# Altium footprint library MX34032_LI.PcbLib: 1 footprints
Each footprint in its own frame and in the unit in brackets; x right, y up, seen from the top. Pads: shape width x height; smd on the part's side, far side on the other; paste and mask are expansions set on the pad; w line width, h text height; cw(c..) or ccw(c..) is an arc to the next point about the centre after c.
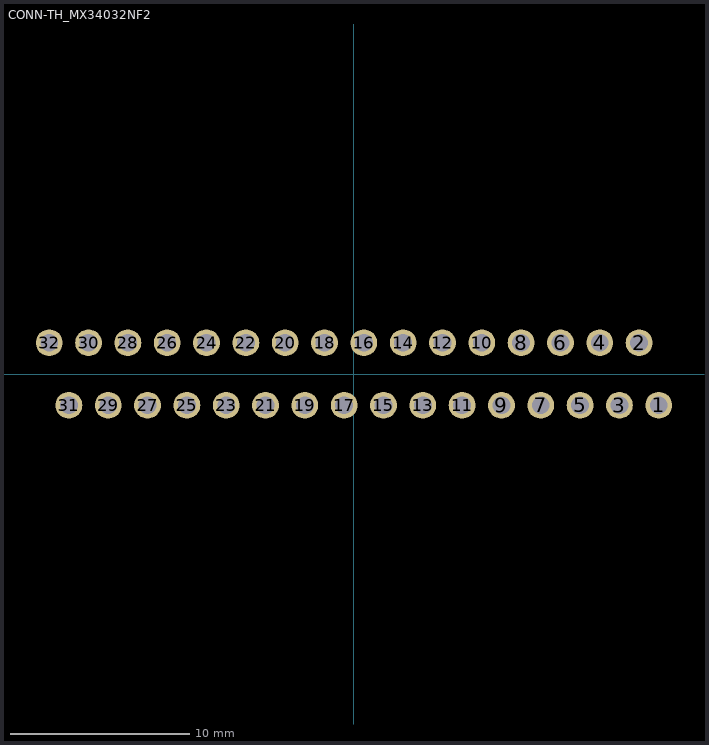
[diagram p0: the footprint, top view; thin cyan lines are the x and y axes]

## CONN-TH_MX34032NF2 [mm]
pads (32):
  round 1.5 hole 1 paste+0 mask+0.05: 1(17.05,-1.75) 2(15.95,1.75) 3(14.85,-1.75) 4(13.75,1.75) 5(12.65,-1.75) 6(11.55,1.75) 7(10.45,-1.75) 8(9.35,1.75) 9(8.25,-1.75) 10(7.15,1.75) 11(6.05,-1.75) 12(4.95,1.75) 13(3.85,-1.75) 14(2.75,1.75) 15(1.65,-1.75) 16(0.55,1.75) 17(-0.55,-1.75) 18(-1.65,1.75) 19(-2.75,-1.75) 20(-3.85,1.75) 21(-4.95,-1.75) 22(-6.05,1.75) 23(-7.15,-1.75) 24(-8.25,1.75) 25(-9.35,-1.75) 26(-10.45,1.75) 27(-11.55,-1.75) 28(-12.65,1.75) 29(-13.75,-1.75) 30(-14.85,1.75) 31(-15.95,-1.75) 32(-17.05,1.75)
Mechanical 15:
  drawing of 32 lines, arcs and shapes, not listed